# EAGLE library part MICROSD (library pro3E)
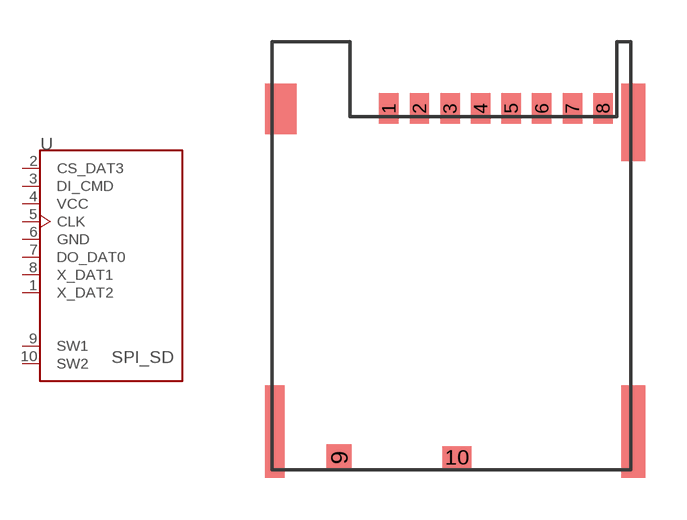
[diagram p4: symbol with the pads of SD-503398-003; footprint SD-503398-003]

Designator prefix -

## MICROSD  [SD-503398-003]
1  X_DAT2  out
2  CS_DAT3  in
3  DI_CMD  in
4  VCC  pwr
5  CLK  in
6  GND  pwr
7  DO_DAT0  out
8  X_DAT1  out
9  SW1  out
10  SW2  out

## Footprint SD-503398-003 (pad centres in mm)
MOLEX SD-503398-003
smd 0.7 x 1.1: 1 0,0; 2 1.1,0; 3 2.2,0; 4 3.3,0; 5 4.4,0; 6 5.5,0; 7 6.6,0; 8 7.7,0
smd 0.9 x 0.93: 9 -1.79,-12.55
smd 1.05 x 0.78: 10 2.45,-12.54